# Altium schematic symbol library 7443844020022.SchLib: 1 symbol
Pins are listed as number, name and electrical type; pins without a type are passive.

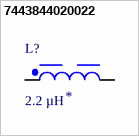
[diagram p0: symbol 7443844020022]

## 7443844020022
designator L?  Inductance: 2.2 µH
Power Inductor, 2.2UH, 7.8A, Shielded Rohs Compliant: Yes
footprint WE-MXGI_4020 (SMT Power Inductor, body 4.10 x 4.10 mm)
pins: 1, 2